# EAGLE library part RENESAS_R7FS5D37A3A01CFPAA0 (library 3D_MIG_Controller)
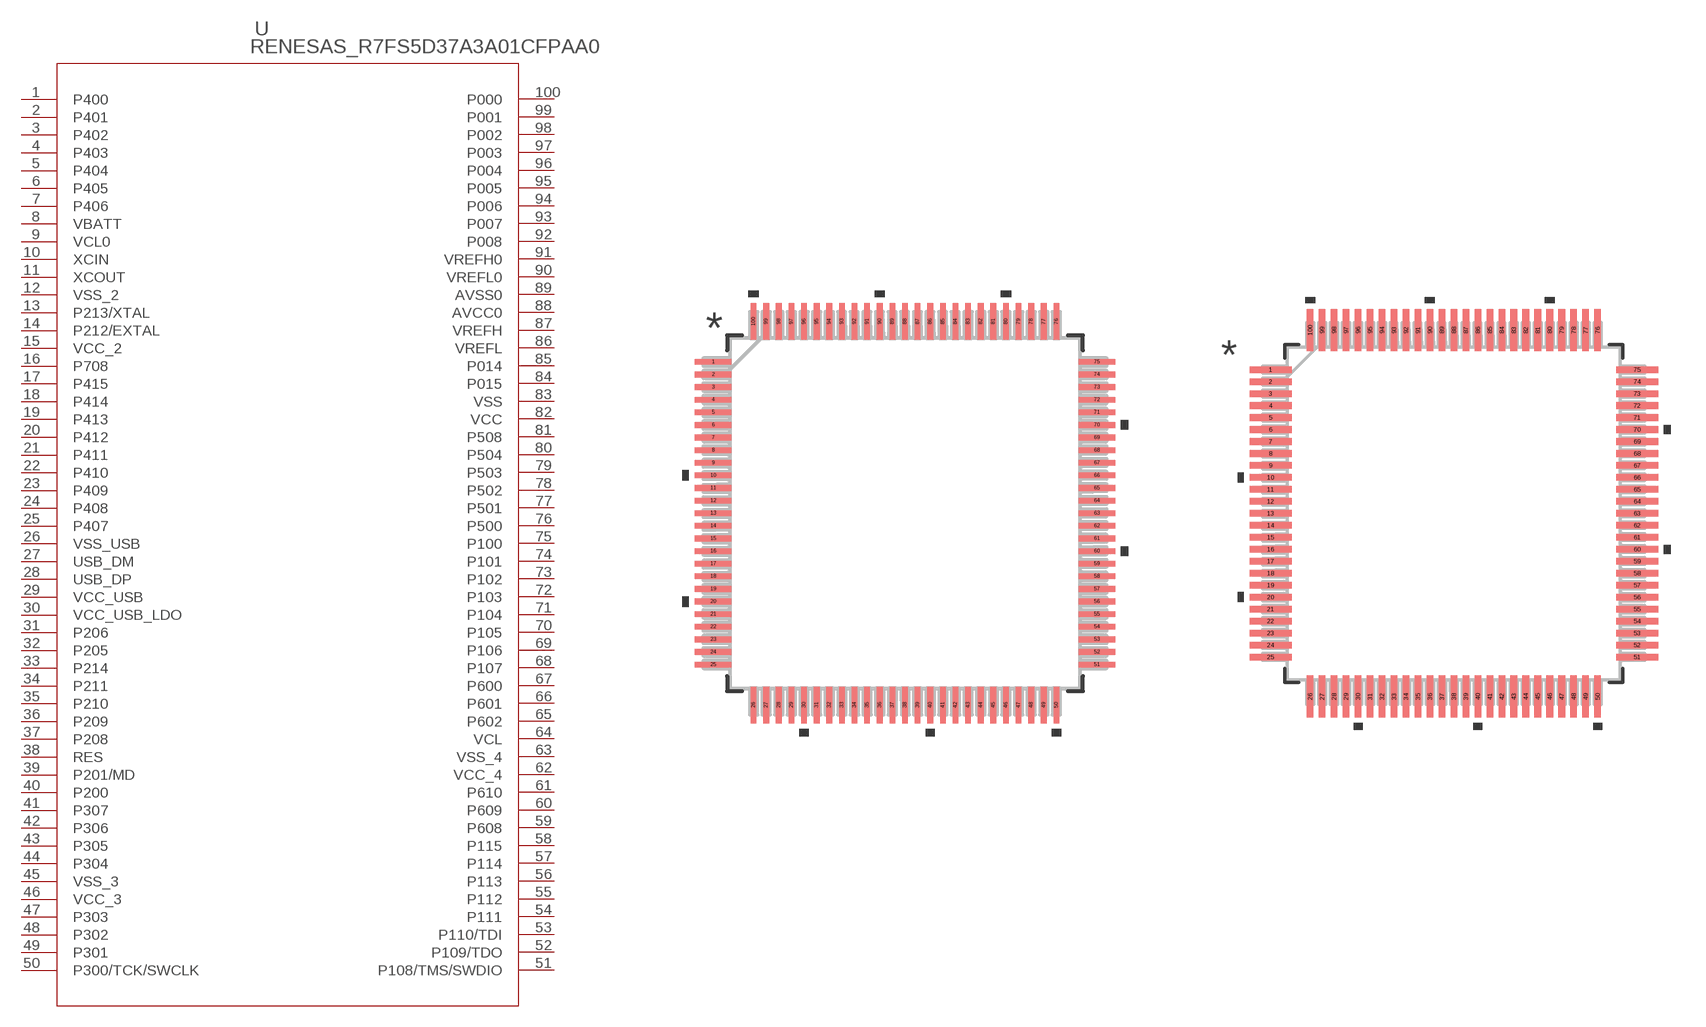
[diagram p86: symbol with the pads of PLQP0100KB-B_REN; footprints PLQP0100KB-B_REN, PLQP0100KB-B_REN-M]

Designator prefix U

## RENESAS_R7FS5D37A3A01CFPAA0 (COPYRIGHT: Copyright (C) 2023 Ultra Librarian. All rights reserved.; MANUFACTURER_PART_NUMBER: R7FS5D37A3A01CFP#AA0; MFR_NAME: Renesas Electronics)  [PLQP0100KB-B_REN]
1  P400
2  P401
3  P402
4  P403
5  P404
6  P405
7  P406
8  VBATT  pwr
9  VCL0  pwr
10  XCIN  in
11  XCOUT  out
12  VSS_2  pwr
13  P213/XTAL
14  P212/EXTAL
15  VCC_2  pwr
16  P708
17  P415
18  P414
19  P413
20  P412
21  P411
22  P410
23  P409
24  P408
25  P407
26  VSS_USB  pwr
27  USB_DM
28  USB_DP
29  VCC_USB  pwr
30  VCC_USB_LDO  pwr
31  P206
32  P205
33  P214
34  P211
35  P210
36  P209
37  P208
38  RES  in
39  P201/MD
40  P200
41  P307
42  P306
43  P305
44  P304
45  VSS_3  pwr
46  VCC_3  pwr
47  P303
48  P302
49  P301
50  P300/TCK/SWCLK
51  P108/TMS/SWDIO
52  P109/TDO
53  P110/TDI
54  P111
55  P112
56  P113
57  P114
58  P115
59  P608
60  P609
61  P610
62  VCC_4  pwr
63  VSS_4  pwr
64  VCL  pwr
65  P602
66  P601
67  P600
68  P107
69  P106
70  P105
71  P104
72  P103
73  P102
74  P101
75  P100
76  P500
77  P501
78  P502
79  P503
80  P504
81  P508
82  VCC  pwr
83  VSS  pwr
84  P015
85  P014
86  VREFL  pwr
87  VREFH  pwr
88  AVCC0  pwr
89  AVSS0  pwr
90  VREFL0  pwr
91  VREFH0  pwr
92  P008
93  P007
94  P006
95  P005
96  P004
97  P003
98  P002
99  P001
100  P000

## RENESAS_R7FS5D37A3A01CFPAA0PLQP0100KB-B_REN-M (COPYRIGHT: Copyright (C) 2023 Ultra Librarian. All rights reserved.; MFR_NAME: Renesas Electronics; PARTNO: R7FS5D37A3A01CFP#AA0)  [PLQP0100KB-B_REN-M]
Pads as for PLQP0100KB-B_REN

## RENESAS_R7FS5D37A3A01CFPAA0PLQP0100KB-B_REN-L (COPYRIGHT: Copyright (C) 2023 Ultra Librarian. All rights reserved.; MFR_NAME: Renesas Electronics; PARTNO: R7FS5D37A3A01CFP#AA0)  [PLQP0100KB-B_REN-L]
Pads as for PLQP0100KB-B_REN

## Footprint PLQP0100KB-B_REN (pad centres in mm)
smd 1.473 x 0.229: 1 -7.722,6.096; 2 -7.722,5.588; 3 -7.722,5.08; 4 -7.722,4.572; 5 -7.722,4.064; 6 -7.722,3.556; 7 -7.722,3.048; 8 -7.722,2.54; 9 -7.722,2.032; 10 -7.722,1.524; 11 -7.722,1.016; 12 -7.722,0.508; 13 -7.722,0; 14 -7.722,-0.508; 15 -7.722,-1.016; 16 -7.722,-1.524; 17 -7.722,-2.032; 18 -7.722,-2.54; 19 -7.722,-3.048; 20 -7.722,-3.556; 21 -7.722,-4.064; 22 -7.722,-4.572; 23 -7.722,-5.08; 24 -7.722,-5.588; 25 -7.722,-6.096; 51 7.722,-6.096; 52 7.722,-5.588; 53 7.722,-5.08; 54 7.722,-4.572; 55 7.722,-4.064; 56 7.722,-3.556; 57 7.722,-3.048; 58 7.722,-2.54; 59 7.722,-2.032; 60 7.722,-1.524; 61 7.722,-1.016; 62 7.722,-0.508; 63 7.722,0; 64 7.722,0.508; 65 7.722,1.016; 66 7.722,1.524; 67 7.722,2.032; 68 7.722,2.54; 69 7.722,3.048; 70 7.722,3.556; 71 7.722,4.064; 72 7.722,4.572; 73 7.722,5.08; 74 7.722,5.588; 75 7.722,6.096
smd 0.229 x 1.473: 26 -6.096,-7.722; 27 -5.588,-7.722; 28 -5.08,-7.722; 29 -4.572,-7.722; 30 -4.064,-7.722; 31 -3.556,-7.722; 32 -3.048,-7.722; 33 -2.54,-7.722; 34 -2.032,-7.722; 35 -1.524,-7.722; 36 -1.016,-7.722; 37 -0.508,-7.722; 38 0,-7.722; 39 0.508,-7.722; 40 1.016,-7.722; 41 1.524,-7.722; 42 2.032,-7.722; 43 2.54,-7.722; 44 3.048,-7.722; 45 3.556,-7.722; 46 4.064,-7.722; 47 4.572,-7.722; 48 5.08,-7.722; 49 5.588,-7.722; 50 6.096,-7.722; 76 6.096,7.722; 77 5.588,7.722; 78 5.08,7.722; 79 4.572,7.722; 80 4.064,7.722; 81 3.556,7.722; 82 3.048,7.722; 83 2.54,7.722; 84 2.032,7.722; 85 1.524,7.722; 86 1.016,7.722; 87 0.508,7.722; 88 0,7.722; 89 -0.508,7.722; 90 -1.016,7.722; 91 -1.524,7.722; 92 -2.032,7.722; 93 -2.54,7.722; 94 -3.048,7.722; 95 -3.556,7.722; 96 -4.064,7.722; 97 -4.572,7.722; 98 -5.08,7.722; 99 -5.588,7.722; 100 -6.096,7.722

## Footprint PLQP0100KB-B_REN-M (pad centres in mm)
smd 1.778 x 0.279: 1 -7.772,6.096; 2 -7.772,5.588; 3 -7.772,5.08; 4 -7.772,4.572; 5 -7.772,4.064; 6 -7.772,3.556; 7 -7.772,3.048; 8 -7.772,2.54; 9 -7.772,2.032; 10 -7.772,1.524; 11 -7.772,1.016; 12 -7.772,0.508; 13 -7.772,0; 14 -7.772,-0.508; 15 -7.772,-1.016; 16 -7.772,-1.524; 17 -7.772,-2.032; 18 -7.772,-2.54; 19 -7.772,-3.048; 20 -7.772,-3.556; 21 -7.772,-4.064; 22 -7.772,-4.572; 23 -7.772,-5.08; 24 -7.772,-5.588; 25 -7.772,-6.096; 51 7.772,-6.096; 52 7.772,-5.588; 53 7.772,-5.08; 54 7.772,-4.572; 55 7.772,-4.064; 56 7.772,-3.556; 57 7.772,-3.048; 58 7.772,-2.54; 59 7.772,-2.032; 60 7.772,-1.524; 61 7.772,-1.016; 62 7.772,-0.508; 63 7.772,0; 64 7.772,0.508; 65 7.772,1.016; 66 7.772,1.524; 67 7.772,2.032; 68 7.772,2.54; 69 7.772,3.048; 70 7.772,3.556; 71 7.772,4.064; 72 7.772,4.572; 73 7.772,5.08; 74 7.772,5.588; 75 7.772,6.096
smd 0.279 x 1.778: 26 -6.096,-7.772; 27 -5.588,-7.772; 28 -5.08,-7.772; 29 -4.572,-7.772; 30 -4.064,-7.772; 31 -3.556,-7.772; 32 -3.048,-7.772; 33 -2.54,-7.772; 34 -2.032,-7.772; 35 -1.524,-7.772; 36 -1.016,-7.772; 37 -0.508,-7.772; 38 0,-7.772; 39 0.508,-7.772; 40 1.016,-7.772; 41 1.524,-7.772; 42 2.032,-7.772; 43 2.54,-7.772; 44 3.048,-7.772; 45 3.556,-7.772; 46 4.064,-7.772; 47 4.572,-7.772; 48 5.08,-7.772; 49 5.588,-7.772; 50 6.096,-7.772; 76 6.096,7.772; 77 5.588,7.772; 78 5.08,7.772; 79 4.572,7.772; 80 4.064,7.772; 81 3.556,7.772; 82 3.048,7.772; 83 2.54,7.772; 84 2.032,7.772; 85 1.524,7.772; 86 1.016,7.772; 87 0.508,7.772; 88 0,7.772; 89 -0.508,7.772; 90 -1.016,7.772; 91 -1.524,7.772; 92 -2.032,7.772; 93 -2.54,7.772; 94 -3.048,7.772; 95 -3.556,7.772; 96 -4.064,7.772; 97 -4.572,7.772; 98 -5.08,7.772; 99 -5.588,7.772; 100 -6.096,7.772

## Footprint PLQP0100KB-B_REN-L (pad centres in mm)
smd 1.168 x 0.229: 1 -7.671,6.096; 2 -7.671,5.588; 3 -7.671,5.08; 4 -7.671,4.572; 5 -7.671,4.064; 6 -7.671,3.556; 7 -7.671,3.048; 8 -7.671,2.54; 9 -7.671,2.032; 10 -7.671,1.524; 11 -7.671,1.016; 12 -7.671,0.508; 13 -7.671,0; 14 -7.671,-0.508; 15 -7.671,-1.016; 16 -7.671,-1.524; 17 -7.671,-2.032; 18 -7.671,-2.54; 19 -7.671,-3.048; 20 -7.671,-3.556; 21 -7.671,-4.064; 22 -7.671,-4.572; 23 -7.671,-5.08; 24 -7.671,-5.588; 25 -7.671,-6.096; 51 7.671,-6.096; 52 7.671,-5.588; 53 7.671,-5.08; 54 7.671,-4.572; 55 7.671,-4.064; 56 7.671,-3.556; 57 7.671,-3.048; 58 7.671,-2.54; 59 7.671,-2.032; 60 7.671,-1.524; 61 7.671,-1.016; 62 7.671,-0.508; 63 7.671,0; 64 7.671,0.508; 65 7.671,1.016; 66 7.671,1.524; 67 7.671,2.032; 68 7.671,2.54; 69 7.671,3.048; 70 7.671,3.556; 71 7.671,4.064; 72 7.671,4.572; 73 7.671,5.08; 74 7.671,5.588; 75 7.671,6.096
smd 0.229 x 1.168: 26 -6.096,-7.671; 27 -5.588,-7.671; 28 -5.08,-7.671; 29 -4.572,-7.671; 30 -4.064,-7.671; 31 -3.556,-7.671; 32 -3.048,-7.671; 33 -2.54,-7.671; 34 -2.032,-7.671; 35 -1.524,-7.671; 36 -1.016,-7.671; 37 -0.508,-7.671; 38 0,-7.671; 39 0.508,-7.671; 40 1.016,-7.671; 41 1.524,-7.671; 42 2.032,-7.671; 43 2.54,-7.671; 44 3.048,-7.671; 45 3.556,-7.671; 46 4.064,-7.671; 47 4.572,-7.671; 48 5.08,-7.671; 49 5.588,-7.671; 50 6.096,-7.671; 76 6.096,7.671; 77 5.588,7.671; 78 5.08,7.671; 79 4.572,7.671; 80 4.064,7.671; 81 3.556,7.671; 82 3.048,7.671; 83 2.54,7.671; 84 2.032,7.671; 85 1.524,7.671; 86 1.016,7.671; 87 0.508,7.671; 88 0,7.671; 89 -0.508,7.671; 90 -1.016,7.671; 91 -1.524,7.671; 92 -2.032,7.671; 93 -2.54,7.671; 94 -3.048,7.671; 95 -3.556,7.671; 96 -4.064,7.671; 97 -4.572,7.671; 98 -5.08,7.671; 99 -5.588,7.671; 100 -6.096,7.671